# Altium schematic symbol library GPSDevice.SchLib: 32 symbols
Pins are listed as number, name and electrical type; pins without a type are passive.

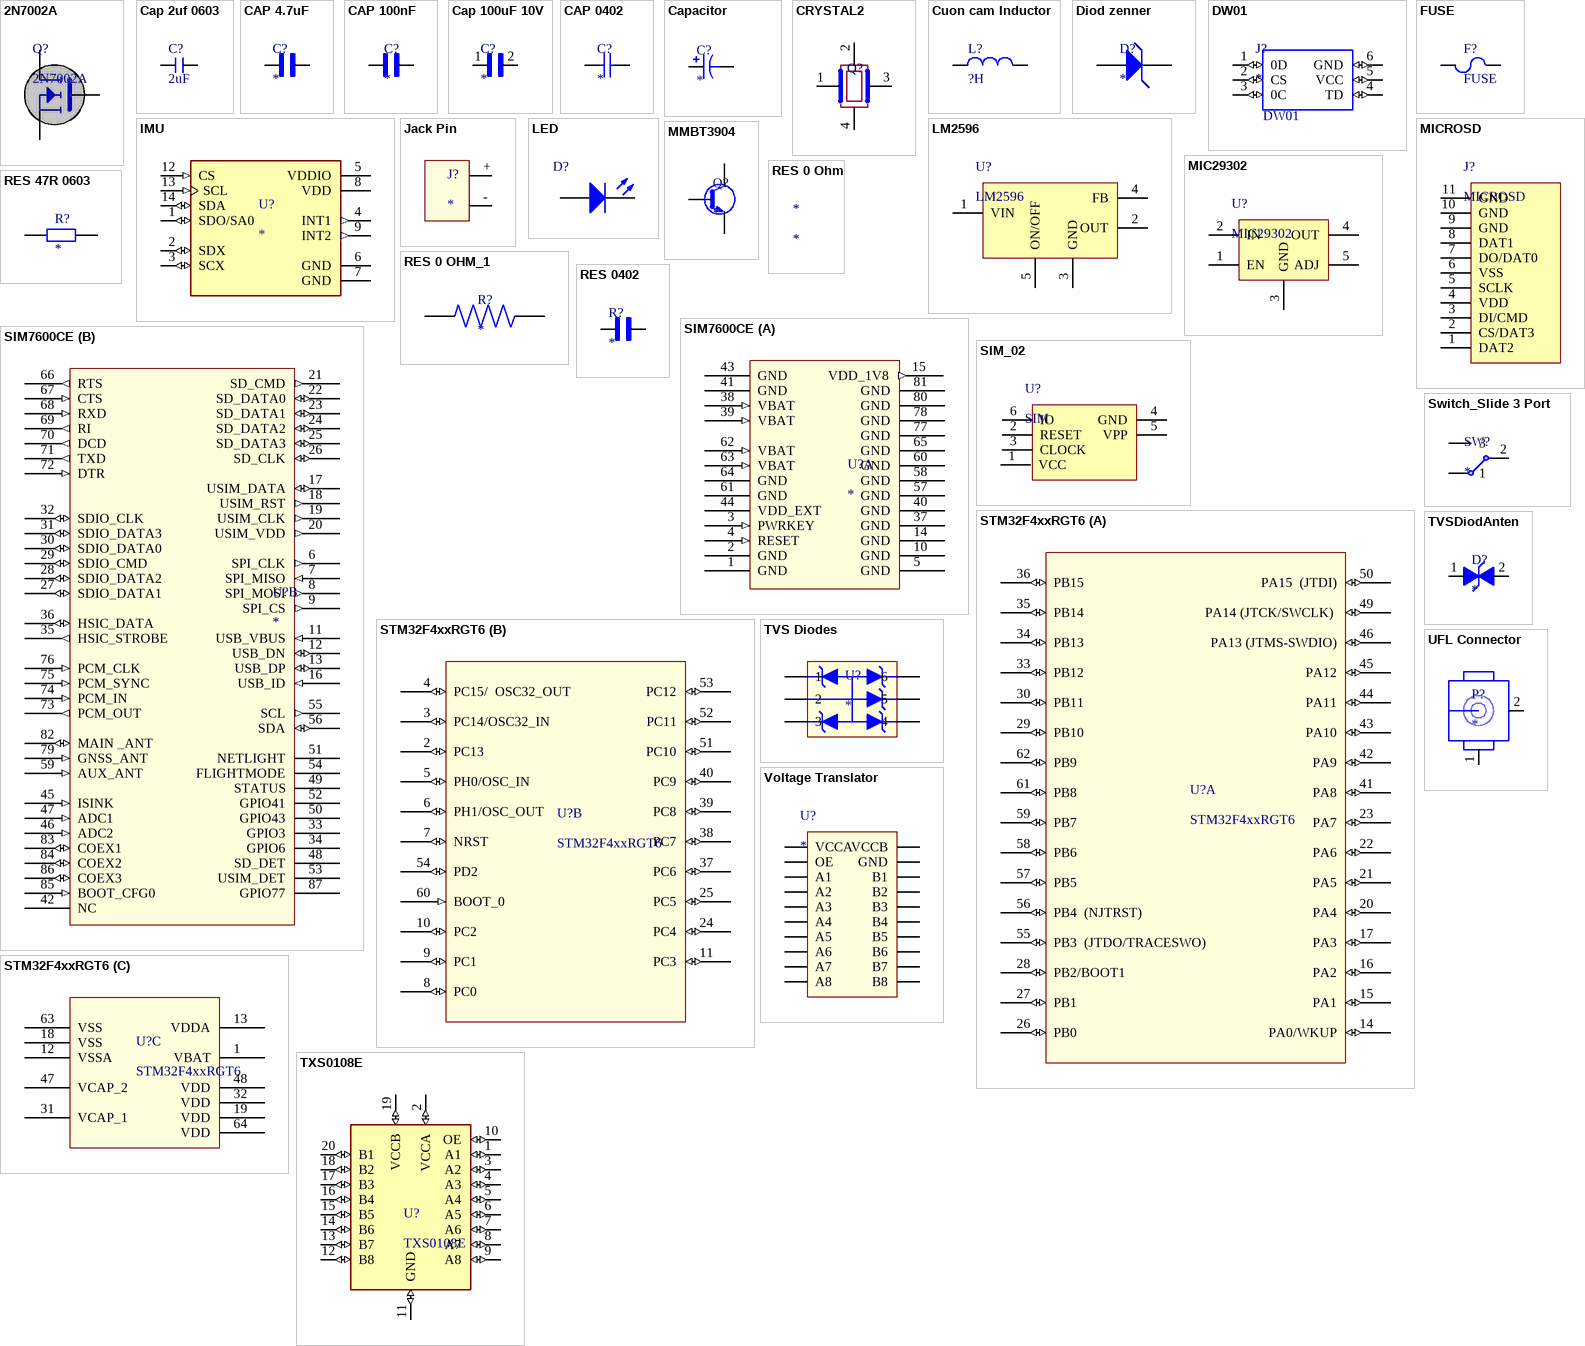
[diagram p0: symbols 2N7002A to Voltage Translator]

## 2N7002A
designator Q?
footprint 2N7002A (SOT23, 3-Leads, Body 3.0x2.5mm (max), Pitch 0.95mm, IPC Medium Density)
footprint 2N7002A (SOT23, 3-Leads, Body 3.0x2.5mm (max), Pitch 0.95mm, IPC Medium Density)
pins: 1 G, 2 S, 3 D

## Cap 2uf 0603
designator C?, comment 2uF
footprint CAPC 4.7uF 0603
pins: ?1, ?2

## CAP 4.7uF
designator C?
MP: GRM188C71C475KE21D; Package: None; Price: None; Value: *; Availability: Unavailable
footprint CAPC 4.7uF 0603
pins: 1, 2

## CAP 100nF
designator C?
footprint LED2
pins: 1, 2

## Cap 100uF 10V
designator C?
CAP ,MLCC ,1210,10V ,X6S,100UF20% ,T&R; MP: LMK325AC6107MM-P; Package: None; Price: None; Value: *; Availability: Unavailable
footprint CAPC 100uF
pins: 1, 2

## CAP 0402
designator C?
footprint CAP 0402
pins: 1, 2

## Capacitor
designator C?
pins: 1, 2

## CRYSTAL2
designator Q?  (value not drawn)
pins: 1, 2, 3 4, 4

## Cuon cam Inductor
designator L?, comment ?H
pins: 4, 5

## Diod zenner
designator D?
Diod zenner
footprint Diod Zener 1 (SOD-123, 2-Leads, 500mW, 5.1V)
pins: 1 A, 2 K

## DW01
designator J?
LED Lighting COBs, Engines, Modules LED Module CDM, Human Centric (HCL) White, Warm Rectangle; MF: Luminus Devices Inc.; MP: DW01; SnapEDA_Link: https://www.snapeda.com/parts/DW01/Luminus%20Devices%20Inc./view-part/6619291/?ref=snap; Price: None; Availability: In Stock; Value: *; Check_prices: https://www.snapeda.com/parts/DW01/Luminus%20Devices%20Inc./view-part/6619291/?ref=eda; Purchase-URL: https://pricing.snapeda.com/search/part/DW01/?ref=eda; Package: None
footprint PinProtectIC_SOT23-6
pins: 1 0D (io), 2 CS (io), 3 0C (io), 4 TD (io), 5 VCC (io), 6 GND (io)

## FUSE
designator F?
footprint FUSE-1812
footprint FUSE-1206
pins: 3, 4

## IMU
designator U?
Accelerometer, Gyroscope, Temperature, 6 Axis Sensor IÂ²C, SPI Output; MP: LSM6DSLTR; MF: STMicroelectronics; SnapEDA_Link: https://www.snapeda.com/parts/LSM6DSLTR/STMicroelectronics/view-part/550517/?ref=snap; Availability: Unavailable; Value: *; Price: None; Package: LGA-14 STMicroelectronics
footprint IMU (IMU ACCEL/GYRO I2C/SPI 14LGA)
pins: 1 SDO/SA0 (io), 2 SDX (io), 3 SCX (io), 4 INT1 (out), 5 VDDIO (power), 6 GND (power), 7 GND (power), 8 VDD (power), 9 INT2 (out), 12 CS (in), 13 SCL (in), 14 SDA (io)

## Jack Pin
designator J?
footprint Jack Pin
pins: +, - 4

## LED
designator D?  (value not drawn)
footprint LED2
pins: 1 A, 2 K

## LM2596
designator U?
footprint LM2596
pins: 1 VIN, 2 OUT, 3 GND, 4 FB, 5 ON/OFF, 6 GND

## MIC29302
designator U?
footprint Microchip_MIC29302WU_0
pins: 1 EN, 2 IN, 3 GND, 4 OUT, 5 ADJ

## MICROSD
designator J?
footprint MICROSD
pins: 1 DAT2, 2 CS/DAT3, 3 DI/CMD, 4 VDD, 5 SCLK, 6 VSS, 7 DO/DAT0, 8 DAT1, 9 GND, 10 GND, 11 GND

## MMBT3904
designator Q?
footprint MMBT3904 (40V NPN SMALL SIGNAL TRANSISTOR IN SOT23)
pins: B, C, C

## RES 0 Ohm
designator *

## RES 0 OHM_1
designator R?
AC Series 0603 0.1 W 0 O Jumper Surface Mount Thick Film Chip Resistor; MP: AC0603JR-070RL; MF: Yageo; Package: 1608 Yageo; Digi-Key_Part_Number: 311-0.0LECT-ND; Value: *; Digi-Key_Purchase_URL: https://www.digikey.com/product-detail/en/yageo/AC0603JR-070RL/311-0.0LECT-ND/2828149?utm_source=snapeda&utm_medium=aggregator&utm_campaign=symbol
footprint RESC1608X55N
pins: 1, 2

## RES 47R 0603
designator R?
footprint RES 0603 47R
pins: 1, 2

## RES 0402
designator R?
1 kOhms Â±1% 0.1W, 1/10W Chip Resistor 0402 _1005 Metric_ Anti-Sulfur Thin Film; MP: S-0402; MF: Johanson; Price: None; Package: 0402 Johanson; Value: *; Availability: Unavailable; SnapEDA_Link: https://www.snapeda.com/parts/S-0402/Johanson/view-part/4220759/?ref=snap
footprint RES 0402
pins: 1, 2

## SIM7600CE
designator U?
footprint sim7600ce (Module sim 7600CE)
part A pins: 1 GND (power), 2 GND (power), 3 PWRKEY (in), 4 RESET (in), 5 GND (power), 10 GND (power), 14 GND (power), 15 VDD_1V8 (out), 37 GND (power), 38 VBAT (in), 39 VBAT (in), 40 GND (power), 41 GND (power), 43 GND (power), 44 VDD_EXT (power), 57 GND (power), 58 GND (power), 60 GND (power), 61 GND (power), 62 VBAT (in), 63 VBAT (in), 64 GND (power), 65 GND (power), 77 GND (power), 78 GND (power), 80 GND (power), 81 GND (power)
part B pins: 6 SPI_CLK (out), 7 SPI_MISO (in), 8 SPI_MOSI (out), 9 SPI_CS (out), 11 USB_VBUS (in), 12 USB_DN (io), 13 USB_DP (io), 16 USB_ID (in), 17 USIM_DATA (io), 18 USIM_RST (out), 19 USIM_CLK (out), 20 USIM_VDD (out), 21 SD_CMD (out), 22 SD_DATA0 (io), 23 SD_DATA1 (io), 24 SD_DATA2 (io), 25 SD_DATA3 (io), 26 SD_CLK (io), 27 SDIO_DATA1 (io), 28 SDIO_DATA2 (io), 29 SDIO_CMD (io), 30 SDIO_DATA0 (io), 31 SDIO_DATA3 (io), 32 SDIO_CLK (io), 33 GPIO3, 34 GPIO6, 35 HSIC_STROBE (out), 36 HSIC_DATA (io), 42 NC, 45 ISINK (in), 46 ADC2 (in), 47 ADC1 (in), 48 SD_DET, 49 STATUS, 50 GPIO43, 51 NETLIGHT, 52 GPIO41, 53 USIM_DET, 54 FLIGHTMODE, 55 SCL (out), 56 SDA (io), 59 AUX_ANT (in), 66 RTS (out), 67 CTS (in), 68 RXD (in), 69 RI (out), 70 DCD (out), 71 TXD (out), 72 DTR (in), 73 PCM_OUT (out), 74 PCM_IN (in), 75 PCM_SYNC (in), 76 PCM_CLK (in), 79 GNSS_ANT (in), 82 MAIN _ANT (io), 83 COEX1 (io), 84 COEX2 (io), 85 BOOT_CFG0 (in), 86 COEX3 (io), 87 GPIO77

## SIM_02
designator U?, comment SIM
footprint SIM-SOCKET1
pins: 1 VCC, 2 RESET, 3 CLOCK, 4 GND, 5 VPP, 6 IO

## STM32F4xxRGT6
designator U?
footprint STM32F4xx
part A pins: 14 PA0/WKUP (io), 15 PA1 (io), 16 PA2 (io), 17 PA3 (io), 20 PA4 (io), 21 PA5 (io), 22 PA6 (io), 23 PA7 (io), 26 PB0 (io), 27 PB1 (io), 28 PB2/BOOT1 (io), 29 PB10 (io), 30 PB11 (io), 33 PB12 (io), 34 PB13 (io), 35 PB14 (io), 36 PB15 (io), 41 PA8 (io), 42 PA9 (io), 43 PA10 (io), 44 PA11 (io), 45 PA12 (io), 46 PA13 (JTMS-SWDIO) (io), 49 PA14 (JTCK/SWCLK)  (io), 50 PA15  (JTDI) (io), 55 PB3  (JTDO/TRACESWO) (io), 56 PB4  (NJTRST) (io), 57 PB5 (io), 58 PB6 (io), 59 PB7 (io), 61 PB8 (io), 62 PB9 (io)
part B pins: 2 PC13 (io), 3 PC14/OSC32_IN (io), 4 PC15/  OSC32_OUT (io), 5 PH0/OSC_IN (io), 6 PH1/OSC_OUT (io), 7 NRST (io), 8 PC0 (io), 9 PC1 (io), 10 PC2 (io), 11 PC3 (io), 24 PC4 (io), 25 PC5 (io), 37 PC6 (io), 38 PC7 (io), 39 PC8 (io), 40 PC9 (io), 51 PC10 (io), 52 PC11 (io), 53 PC12 (io), 54 PD2 (io), 60 BOOT_0 (in)
part C pins: 1 VBAT (power), 12 VSSA (power), 13 VDDA (power), 18 VSS (power), 19 VDD (power), 31 VCAP_1  (power), 32 VDD (power), 47 VCAP_2 (power), 48 VDD (power), 63 VSS (power), 64 VDD (power)

## Switch_Slide 3 Port
designator SW?
Manu numb: OS102011MS2QN1
footprint Switch 4mm
pins: 1, 2, 3

## TVS Diodes
designator U?
footprint TVS Diod (TVS Diod SOT323-6L)
pins: 1, 3, 4, 5, 6, 9 2

## TVSDiodAnten
designator D?
pins: 1, 2

## TXS0108E
designator U?
Voltage Level Translator Bidirectional 1 Circuit 8 Channel 60Mbps 20-VQFN (3.5x4.5); MF: Texas Instruments; Purchase-URL: https://pricing.snapeda.com/search/part/TXS0108E/?ref=eda; Package: None; SnapEDA_Link: https://www.snapeda.com/parts/TXS0108E/Texas+Instruments/view-part/?ref=snap; Value: *; Check_prices: https://www.snapeda.com/parts/TXS0108E/Texas+Instruments/view-part/?ref=eda; Price: None; MP: TXS0108E; Availability: In Stock
footprint PW_R-PDSO-G20
footprint PW_R-PDSO-G20
pins: 1 A1 (io), 2 VCCA (io), 3 A2 (io), 4 A3 (io), 5 A4 (io), 6 A5 (io), 7 A6 (io), 8 A7 (io), 9 A8 (io), 10 OE (io), 11 GND (io), 12 B8 (io), 13 B7 (io), 14 B6 (io), 15 B5 (io), 16 B4 (io), 17 B3 (io), 18 B2 (io), 19 VCCB (io), 20 B1 (io)

## UFL Connector
designator P?
footprint UFL Connector
pins: 1, 2

## Voltage Translator
designator U?
footprint Voltage Translator TXS0108E (TSOP, 20-Leads, Body 6.50x4.40mm, Pitch 0.65mm, IPC Medium Density)
pins: 5 OE, 6 VCCA, 6 A1, 7 VCCB, 7 A2, 7 B8, 8 A3, 8 B7, 8 GND, 9 A4, 9 B6, 10 A5, 10 B5, 11 A6, 11 B4, 12 A7, 12 B3, 13 A8, 13 B2, 14 B1